# Altium integrated library PJ-050AH.IntLib: 1 symbol
Pins are listed as number, name and electrical type; pins without a type are passive.

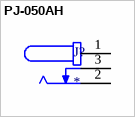
[diagram p0: symbol PJ-050AH]

## PJ-050AH
designator J?
2.0 mm Center Pin, 5.0 A, Right Angle, Through Hole, Pick-n-Place Top, Dc Power Jack Connector; MP: PJ-050AH; Value: *; Package: None; Price: None; Availability: Unavailable
footprint CUI_PJ-050AH
pins: 1, 2, 3